# EAGLE library part BSS138PS,115 (library SamacSys_Parts)
Nexperia BSS138PS,115 Dual N-channel MOSFET, 320 mA, 60 V, 6-Pin SOT-363 Source: Datasheet <https://assets.nexperia.com/documents/data-sheet/BSS138PS.pdf>
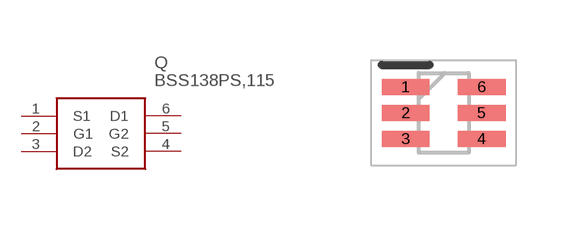
[diagram p11: symbol with the pads of SOT65P210X110-6N; footprint SOT65P210X110-6N]

Designator prefix Q

## BSS138PS,115 (DESCRIPTION: Nexperia BSS138PS,115 Dual N-channel MOSFET, 320 mA, 60 V, 6-Pin SOT-363; HEIGHT: 1.1mm; MANUFACTURER_NAME: Nexperia; MANUFACTURER_PART_NUMBER: BSS138PS,115; MOUSER_PART_NUMBER: 771-BSS138PS115; MOUSER_PRICE-STOCK: https://www.mouser.com/Search/Refine.aspx?Keyword=771-BSS138PS115; RS_PART_NUMBER: 7920901P; RS_PRICE-STOCK: http://uk.rs-online.com/web/p/products/7920901P)  [SOT65P210X110-6N]
1  S1
2  G1
3  D2
4  S2
5  G2
6  D1

## Footprint SOT65P210X110-6N (pad centres in mm)
DCK (R-PDSO-G6)
smd 1.2 x 0.4: 1 -0.95,0.65; 2 -0.95,0; 3 -0.95,-0.65; 4 0.95,-0.65; 5 0.95,0; 6 0.95,0.65